# Altium footprint library LAN8720A-CP-TR-ABC.PcbLib: 3 footprints
Each footprint in its own frame and in the unit in brackets; x right, y up, seen from the top. Pads: shape width x height; smd on the part's side, far side on the other; paste and mask are expansions set on the pad; w line width, h text height; cw(c..) or ccw(c..) is an arc to the next point about the centre after c.
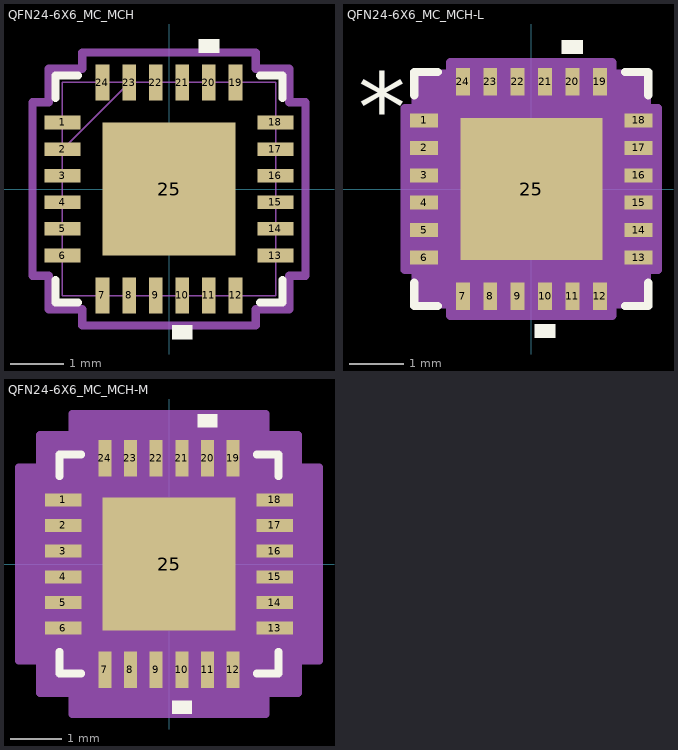
[diagram p0: the footprints below, top view; thin cyan lines are the x and y axes]

## QFN24-6X6_MC_MCH [mm]
pads (25):
  rect 0.68x0.254 smd paste+0 mask+0: 1(-2,1.25) 2(-2,0.75) 3(-2,0.25) 4(-2,-0.25) 5(-2,-0.75) 6(-2,-1.25) 13(2,-1.25) 14(2,-0.75) 15(2,-0.25) 16(2,0.25) 17(2,0.75) 18(2,1.25)
  rect 0.254x0.68 smd paste+0 mask+0: 7(-1.25,-2) 8(-0.75,-2) 9(-0.25,-2) 10(0.25,-2) 11(0.75,-2) 12(1.25,-2) 19(1.25,2) 20(0.75,2) 21(0.25,2) 22(-0.25,2) 23(-0.75,2) 24(-1.25,2)
  rect 2.5x2.5 smd paste-1.283 mask+0: 25(0,0)
Top Overlay:
  region: 0.941,2.565 0.56,2.565 0.56,2.819 0.941,2.819
  region: 0.44,-2.565 0.059,-2.565 0.059,-2.819 0.44,-2.819
  lines w0.152: -2.134,-1.71 -2.134,-2.134 -1.71,-2.134 ; -2.134,1.71 -2.134,2.134 -1.71,2.134 ; 1.71,-2.134 2.134,-2.134 2.134,-1.71 ; 1.71,2.134 2.134,2.134 2.134,1.71
  text "." at -2.794,1.143 h1.27
Top Paste:
  region: 1.195,-0.1 0.1,-0.1 0.1,-1.195 1.195,-1.195
  region: 1.195,1.195 0.1,1.195 0.1,0.1 1.195,0.1
  region: -0.1,-0.1 -1.195,-0.1 -1.195,-1.195 -0.1,-1.195
  region: -0.1,1.195 -1.195,1.195 -1.195,0.1 -0.1,0.1
Mechanical 13:
  lines w0.025: -2.007,0.737 -0.737,2.007 ; -2.007,-2.007 -2.007,2.007 2.007,2.007 2.007,-2.007 -2.007,-2.007 ; -2.007,-1.402 -2.007,-1.098 -2.007,-1.402 ; -2.007,-0.902 -2.007,-0.598 -2.007,-0.902 ; -2.007,-0.402 -2.007,-0.098 -2.007,-0.402 ; -2.007,0.098 -2.007,0.402 -2.007,0.098 ; -2.007,0.598 -2.007,0.902 -2.007,0.598 ; -2.007,1.098 -2.007,1.402 -2.007,1.098 ; -1.402,-2.007 -1.098,-2.007 -1.402,-2.007 ; -1.402,2.007 -1.098,2.007 -1.402,2.007 ; -0.902,-2.007 -0.598,-2.007 -0.902,-2.007 ; -0.902,2.007 -0.598,2.007 -0.902,2.007 ; -0.402,-2.007 -0.098,-2.007 -0.402,-2.007 ; -0.402,2.007 -0.098,2.007 -0.402,2.007 ; 0.098,-2.007 0.402,-2.007 0.098,-2.007 ; 0.098,2.007 0.402,2.007 0.098,2.007 ; 0.598,-2.007 0.902,-2.007 0.598,-2.007 ; 0.598,2.007 0.902,2.007 0.598,2.007 ; 1.098,-2.007 1.402,-2.007 1.098,-2.007 ; 1.098,2.007 1.402,2.007 1.098,2.007 ; 2.007,-1.402 2.007,-1.098 2.007,-1.402 ; 2.007,-0.902 2.007,-0.598 2.007,-0.902 ; 2.007,-0.402 2.007,-0.098 2.007,-0.402 ; 2.007,0.098 2.007,0.402 2.007,0.098 ; 2.007,0.598 2.007,0.902 2.007,0.598 ; 2.007,1.098 2.007,1.402 2.007,1.098
  text "*" at -2.019,0.865 h1.27
Mechanical 15:
  lines w0.152: -2.565,-1.631 -2.565,1.631 -2.261,1.631 -2.261,2.261 -1.631,2.261 -1.631,2.565 1.631,2.565 1.631,2.261 2.261,2.261 2.261,1.631 2.565,1.631 2.565,-1.631 2.261,-1.631 2.261,-2.261 1.631,-2.261 1.631,-2.565 -1.631,-2.565 -1.631,-2.261 -2.261,-2.261 -2.261,-1.631 -2.565,-1.631
3D body "QFN24-6X6_MC_MCH.step": height 0.92, standoff 0, extent -2.007,-2.007 2.007,2.007

## QFN24-6X6_MC_MCH-L [mil]
pads (25):
  rect 20x10 smd paste+0 mask+0: 1(-77,49.21) 2(-77,29.53) 3(-77,9.84) 4(-77,-9.84) 5(-77,-29.53) 6(-77,-49.21) 13(77,-49.21) 14(77,-29.53) 15(77,-9.84) 16(77,9.84) 17(77,29.53) 18(77,49.21)
  rect 10x20 smd paste+0 mask+0: 7(-49.21,-77) 8(-29.53,-77) 9(-9.84,-77) 10(9.84,-77) 11(29.53,-77) 12(49.21,-77) 19(49.21,77) 20(29.53,77) 21(9.84,77) 22(-9.84,77) 23(-29.53,77) 24(-49.21,77)
  rect 102x102 smd paste-50.5 mask+0: 25(0,0)
Top Overlay:
  region: 37.03,97 22.03,97 22.03,107 37.03,107
  region: 17.34,-97 2.34,-97 2.34,-107 17.34,-107
  lines w6: -84,-67.31 -84,-84 -67.31,-84 ; -84,67.31 -84,84 -67.31,84 ; 67.31,-84 84,-84 84,-67.31 ; 67.31,84 84,84 84,67.31
  text "*" at -124.5,34.06 h50
Top Paste:
  region: 47.06,-3.94 3.94,-3.94 3.94,-47.06 47.06,-47.06
  region: 47.06,47.06 3.94,47.06 3.94,3.94 47.06,3.94
  region: -3.94,-3.94 -47.06,-3.94 -47.06,-47.06 -3.94,-47.06
  region: -3.94,47.06 -47.06,47.06 -47.06,3.94 -3.94,3.94
Mechanical 13:
  lines w1: -79,29 -29,79 ; -79,-79 -79,79 79,79 79,-79 -79,-79 ; -79,-55.21 -79,-43.21 -79,-55.21 ; -79,-35.53 -79,-23.53 -79,-35.53 ; -79,-15.84 -79,-3.84 -79,-15.84 ; -79,3.84 -79,15.84 -79,3.84 ; -79,23.53 -79,35.53 -79,23.53 ; -79,43.21 -79,55.21 -79,43.21 ; -55.21,-79 -43.21,-79 -55.21,-79 ; -55.21,79 -43.21,79 -55.21,79 ; -35.53,-79 -23.53,-79 -35.53,-79 ; -35.53,79 -23.53,79 -35.53,79 ; -15.84,-79 -3.84,-79 -15.84,-79 ; -15.84,79 -3.84,79 -15.84,79 ; 3.84,-79 15.84,-79 3.84,-79 ; 3.84,79 15.84,79 3.84,79 ; 23.53,-79 35.53,-79 23.53,-79 ; 23.53,79 35.53,79 23.53,79 ; 43.21,-79 55.21,-79 43.21,-79 ; 43.21,79 55.21,79 43.21,79 ; 79,-55.21 79,-43.21 79,-55.21 ; 79,-35.53 79,-23.53 79,-35.53 ; 79,-15.84 79,-3.84 79,-15.84 ; 79,3.84 79,15.84 79,3.84 ; 79,23.53 79,35.53 79,23.53 ; 79,43.21 79,55.21 79,43.21
  text "*" at -79.5,34.06 h50
Mechanical 15:
  region: -58.21,-83 -83,-83 -83,-58.21 -91,-58.21 -91,58.21 -83,58.21 -83,83 -58.21,83 -58.21,91 58.21,91 58.21,83 83,83 83,58.21 91,58.21 91,-58.21 83,-58.21 83,-83 58.21,-83 58.21,-91 -58.21,-91
  lines w6: -91,-58.21 -91,58.21 -83,58.21 -83,83 -58.21,83 -58.21,91 58.21,91 58.21,83 83,83 83,58.21 91,58.21 91,-58.21 83,-58.21 83,-83 58.21,-83 58.21,-91 -58.21,-91 -58.21,-83 -83,-83 -83,-58.21 -91,-58.21
3D body "QFN24-6X6_MC_MCH.step": height 36.1, standoff 0, extent -79.02,-79.02 79.02,79.02

## QFN24-6X6_MC_MCH-M [mil]
pads (25):
  rect 28x10 smd paste+0 mask+0: 1(-81,49.21) 2(-81,29.53) 3(-81,9.84) 4(-81,-9.84) 5(-81,-29.53) 6(-81,-49.21) 13(81,-49.21) 14(81,-29.53) 15(81,-9.84) 16(81,9.84) 17(81,29.53) 18(81,49.21)
  rect 10x28 smd paste+0 mask+0: 7(-49.21,-81) 8(-29.53,-81) 9(-9.84,-81) 10(9.84,-81) 11(29.53,-81) 12(49.21,-81) 19(49.21,81) 20(29.53,81) 21(9.84,81) 22(-9.84,81) 23(-29.53,81) 24(-49.21,81)
  rect 102x102 smd paste-50.5 mask+0: 25(0,0)
Top Overlay:
  region: 17.34,-105 2.34,-105 2.34,-115 17.34,-115
  region: 37.03,105 22.03,105 22.03,115 37.03,115
  lines w6: -84,-67.31 -84,-84 -67.31,-84 ; -84,67.31 -84,84 -67.31,84 ; 67.31,-84 84,-84 84,-67.31 ; 67.31,84 84,84 84,67.31
  text "." at -115,45 h50
Top Paste:
  region: -3.94,47.06 -47.06,47.06 -47.06,3.94 -3.94,3.94
  region: -3.94,-3.94 -47.06,-3.94 -47.06,-47.06 -3.94,-47.06
  region: 47.06,47.06 3.94,47.06 3.94,3.94 47.06,3.94
  region: 47.06,-3.94 3.94,-3.94 3.94,-47.06 47.06,-47.06
Mechanical 13:
  lines w1: -79,29 -29,79 ; -79,-79 79,-79 79,79 -79,79 -79,-79 ; -79,-55.21 -79,-43.21 -79,-55.21 ; -79,-35.53 -79,-23.53 -79,-35.53 ; -79,-15.84 -79,-3.84 -79,-15.84 ; -79,3.84 -79,15.84 -79,3.84 ; -79,23.53 -79,35.53 -79,23.53 ; -79,43.21 -79,55.21 -79,43.21 ; -55.21,-79 -43.21,-79 -55.21,-79 ; -55.21,79 -43.21,79 -55.21,79 ; -35.53,-79 -23.53,-79 -35.53,-79 ; -35.53,79 -23.53,79 -35.53,79 ; -15.84,-79 -3.84,-79 -15.84,-79 ; -15.84,79 -3.84,79 -15.84,79 ; 3.84,-79 15.84,-79 3.84,-79 ; 3.84,79 15.84,79 3.84,79 ; 23.53,-79 35.53,-79 23.53,-79 ; 23.53,79 35.53,79 23.53,79 ; 43.21,-79 55.21,-79 43.21,-79 ; 43.21,79 55.21,79 43.21,79 ; 79,-55.21 79,-43.21 79,-55.21 ; 79,-35.53 79,-23.53 79,-35.53 ; 79,-15.84 79,-3.84 79,-15.84 ; 79,3.84 79,15.84 79,3.84 ; 79,23.53 79,35.53 79,23.53 ; 79,43.21 79,55.21 79,43.21
  text "*" at -79.5,34.06 h50
Mechanical 15:
  region: -74.21,-99 -99,-99 -99,-74.21 -115,-74.21 -115,74.21 -99,74.21 -99,99 -74.21,99 -74.21,115 74.21,115 74.21,99 99,99 99,74.21 115,74.21 115,-74.21 99,-74.21 99,-99 74.21,-99 74.21,-115 -74.21,-115
  lines w6: -115,-74.21 -99,-74.21 -99,-99 -74.21,-99 -74.21,-115 74.21,-115 74.21,-99 99,-99 99,-74.21 115,-74.21 115,74.21 99,74.21 99,99 74.21,99 74.21,115 -74.21,115 -74.21,99 -99,99 -99,74.21 -115,74.21 -115,-74.21
3D body "QFN24-6X6_MC_MCH.step": height 36.1, standoff 0, extent -79.02,-79.02 79.02,79.02